# Altium footprint library eSolderControl_v3.PcbLib: 1 footprints
Each footprint in its own frame and in the unit in brackets; x right, y up, seen from the top. Pads: shape width x height; smd on the part's side, far side on the other; paste and mask are expansions set on the pad; w line width, h text height; cw(c..) or ccw(c..) is an arc to the next point about the centre after c.
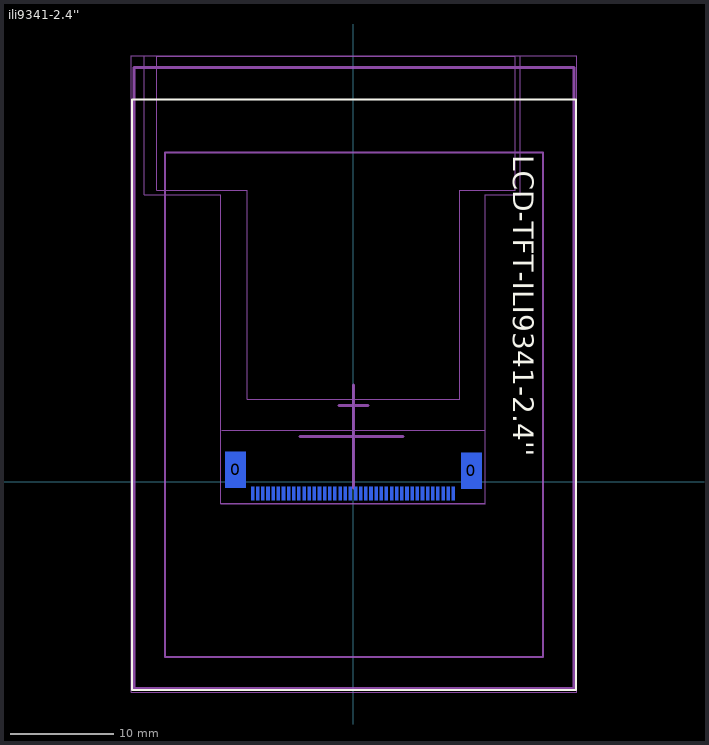
[diagram p0: the footprint, top view; thin cyan lines are the x and y axes]

## ili9341-2.4'' [mm] "ili9341-40pin"
pads (42):
  rect 2x3.5 smd far side: 0(-11.45,1.15) 0(11.45,1.05)
  rect 0.3x1.3 smd far side: 1(9.7,-1.15) 2(9.2,-1.15) 3(8.7,-1.15) 4(8.2,-1.15) 5(7.7,-1.15) 6(7.2,-1.15) 7(6.7,-1.15) 8(6.2,-1.15) 9(5.7,-1.15) 10(5.2,-1.15) 11(4.7,-1.15) 12(4.2,-1.15) 13(3.7,-1.15) 14(3.2,-1.15) 15(2.7,-1.15) 16(2.2,-1.15) 17(1.7,-1.15) 18(1.2,-1.15) 19(0.7,-1.15) 20(0.2,-1.15) 21(-0.3,-1.15) 22(-0.8,-1.15) 23(-1.3,-1.15) 24(-1.8,-1.15) 25(-2.3,-1.15) 26(-2.8,-1.15) 27(-3.3,-1.15) 28(-3.8,-1.15) 29(-4.3,-1.15) 30(-4.8,-1.15) 31(-5.3,-1.15) 32(-5.8,-1.15) 33(-6.3,-1.15) 34(-6.8,-1.15) 35(-7.3,-1.15) 36(-7.8,-1.15) 37(-8.3,-1.15) 38(-8.8,-1.15) 39(-9.3,-1.15) 40(-9.8,-1.15)
Top Overlay:
  lines w0.2: -21.5,-20.25 21.6,-20.25 21.6,37.1 -21.5,37.1 -21.5,-20.25
  text "LCD-TFT-ILI9341-2.4''" at 15.5,31.7 h2
Bottom Overlay:
  circle w0.5: c11,-2 r0.1
  lines w0.3: -11.05,-0.85 -12.75,-0.85 -12.75,5.05 12.65,5.05 12.65,-0.95 10.95,-0.95
TextTop:
  lines w0.3: -5.2,4.4 4.8,4.4 ; -1.4,7.4 1.4,7.4 ; 0,-0.6 0,9.4
AssemblyTop:
  lines w0.2: -18.3,-17.05 18.4,-17.05 18.4,31.95 -18.3,31.95 -18.3,-17.05
  lines w0.3: -21.3,-20.1 21.4,-20.1 21.4,40.2 -21.3,40.2 -21.3,-20.1
AssemblyBottom:
  circle w0.3: c11,-0.2 r0.141
  lines w0.1: -12.9,5 -12.9,-2.1 12.8,-2.1 12.8,5 -12.8,5 ; -19.1,28.3 -19.1,41.3 15.7,41.3 15.7,28.3 10.3,28.3 10.3,8 -10.3,8 -10.3,28.3 -19.1,28.3
InstallationTop:
  lines w0.1: -1.5,7.4 1.5,7.4 ; 0,5.9 0,8.9 ; -21.6,-20.45 21.7,-20.45 21.7,41.35 -21.5,41.35 -21.6,41.35 -21.6,-20.45
InstallationBottom:
  lines w0.1: -20.3,27.85 -20.3,41.35 16.2,41.35 16.2,27.85 12.8,27.85 12.8,-2.15 -12.9,-2.15 -12.9,27.85 -20.3,27.85
3D body: height 3.45, standoff 0, extent -21.3,-20.1 21.4,40.2
3D body: height -0.5, standoff -1, extent -19.1,8 15.7,41.3
3D body: height -0.5, standoff -1, extent -19.1,8 15.7,41.3
3D body "4-1734844-0.stp": height -0.38, standoff -2.28, extent -13.15,-1.3 13.1,4.9